# EAGLE library part EDGE-LIBRARY_MIC2025-2YMM-TR (library Local Compute Module)
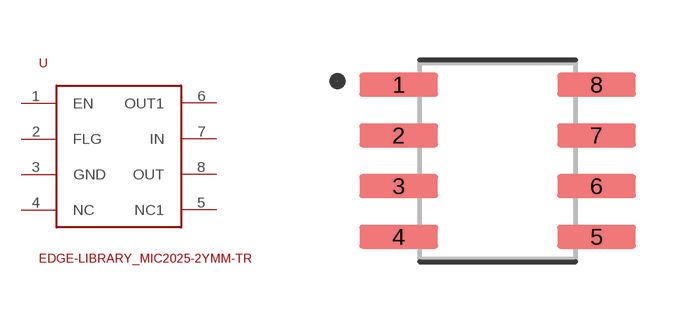
[diagram p12: symbol with the pads of EDGE-LIBRARY_SOIC127P600X175-8N; footprint EDGE-LIBRARY_SOIC127P600X175-8N]

Designator prefix U

## EDGE-LIBRARY_MIC2025-2YMM-TR (DIGIKEY: MIC2025-2YMM-CT-ND; MANUFACTURE: Microchip Technology; MPN: MIC2025-2YMM-TR)  [EDGE-LIBRARY_SOIC127P600X175-8N]
1  EN
2  FLG
3  GND
4  NC
5  NC1
6  OUT1
7  IN
8  OUT

## Footprint EDGE-LIBRARY_SOIC127P600X175-8N (pad centres in mm)
smd 1.97 x 0.6: 1 -2.475,1.905; 2 -2.475,0.635; 3 -2.475,-0.635; 4 -2.475,-1.905; 5 2.475,-1.905; 6 2.475,-0.635; 7 2.475,0.635; 8 2.475,1.905